# Altium footprint library WePcbLib.PcbLib: 177 footprints (part 7 of 12)
Each footprint in its own frame and in the unit in brackets; x right, y up, seen from the top. Pads: shape width x height; smd on the part's side, far side on the other; paste and mask are expansions set on the pad; w line width, h text height; cw(c..) or ccw(c..) is an arc to the next point about the centre after c.
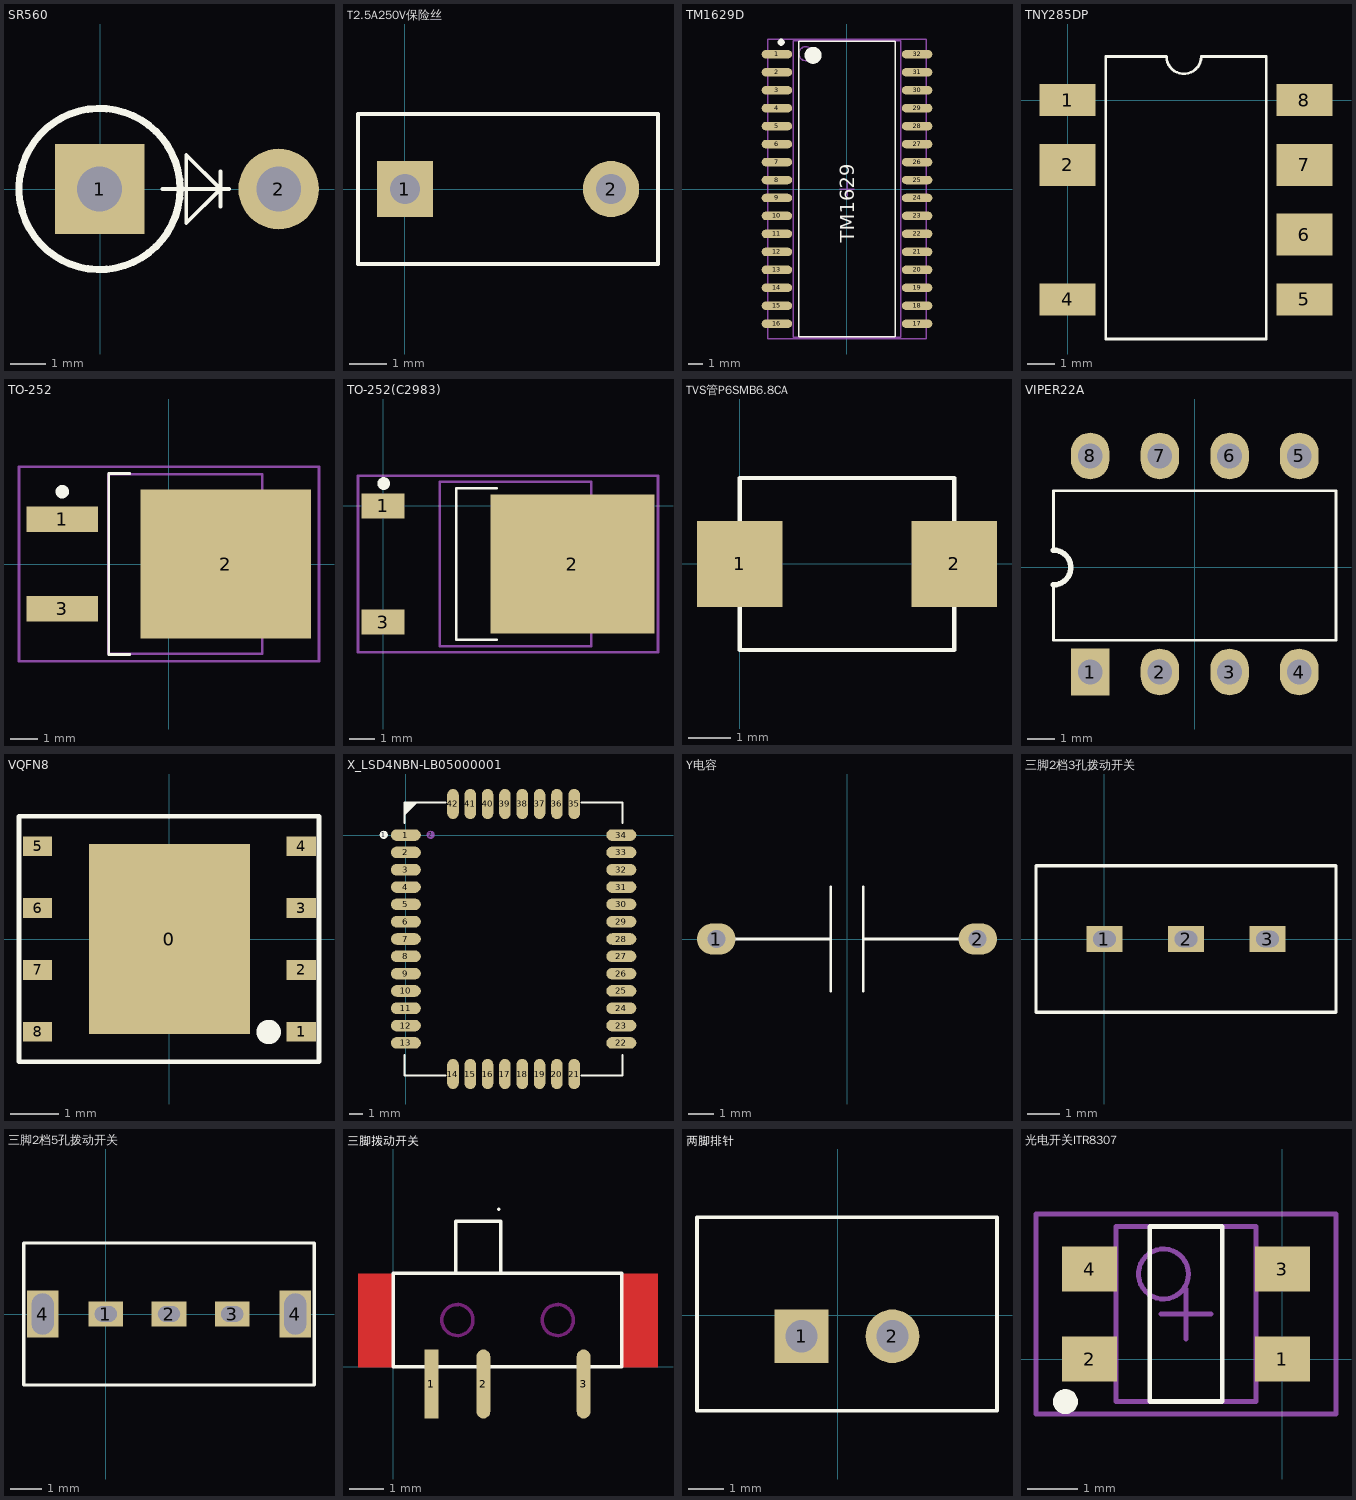
[diagram p6: the footprints below, top view; thin cyan lines are the x and y axes]

## SR560 [mil]
pads (2):
  rect 100x100 hole 50: 1(-1,0)
  round 90 hole 50: 2(199,0)
Top Overlay:
  circle w8: c-1,0 r90
  lines w3.94: 69,0 144,0 ; 134,-20 134,20 ; 95.56,-38.44 95.56,38.44 134,0 95.56,-38.44

## T2.5A250V保险丝 [mm]
pads (2):
  rect 1.5x1.5 hole 0.8: 1(0,0)
  round 1.5 hole 0.8: 2(5.5,0)
Top Overlay:
  lines w0.1: -1.25,-2 -1.25,2 6.75,2 6.75,-2 -1.25,-2

## TM1629D [mm]
height 4.6
pads (32):
  oval 2.159x0.6 smd: 1(-4.95,9.525) 2(-4.95,8.255) 3(-4.95,6.985) 4(-4.95,5.715) 5(-4.95,4.445) 6(-4.95,3.175) 7(-4.95,1.905) 8(-4.95,0.635) 9(-4.95,-0.635) 10(-4.95,-1.905) 11(-4.95,-3.175) 12(-4.95,-4.445) 13(-4.95,-5.715) 14(-4.95,-6.985) 15(-4.95,-8.255) 16(-4.95,-9.525) 17(4.956,-9.525) 18(4.956,-8.255) 19(4.956,-6.985) 20(4.956,-5.715) 21(4.956,-4.445) 22(4.956,-3.175) 23(4.956,-1.905) 24(4.956,-0.635) 25(4.956,0.635) 26(4.956,1.905) 27(4.956,3.175) 28(4.956,4.445) 29(4.956,5.715) 30(4.956,6.985) 31(4.956,8.255) 32(4.956,9.525)
Top Overlay:
  circle w0.25: c-4.647,10.375 r0.125
  circle w0.6: c-2.397,9.45 r0.3
  lines w0.1: -3.397,-10.45 -3.397,10.45 3.403,10.45 3.403,-10.45 -3.397,-10.45
  text "TM1629" at 0.511,-3.81 h1.02
Mechanical 13:
  circle w0.1: c-2.897,9.565 r0.5
  lines w0.1: -3.797,-10.465 -3.797,10.465 3.803,10.465 3.803,-10.465 -3.797,-10.465
Mechanical 15:
  lines w0.1: -0.497,0 0.503,0 ; 0.003,-0.5 0.003,0.5 ; -5.597,-10.6 -5.597,10.6 5.603,10.6 5.603,-10.6 -5.597,-10.6
3D body: height 2.64, standoff 0, extent -3.797,-10.465 3.803,10.465

## TNY285DP [mil]
pads (7):
  rect 80x46 smd: 1(0,0) 4(0,-286) 5(340,-286) 8(340,0)
  rect 80x60 smd: 2(0,-93) 6(340,-193) 7(340,-93)
Top Overlay:
  lines w3.94: 55,-342.77 285,-342.77 285,62.74 191.97,62.74 cw(c166.97,62.74) 141.97,62.74 55,62.74 55,-342.77

## TO-252 [mm] "D-PAK, 3-Pads, Body 5.7x6.7mm (max), IPC Medium Density"
height 2.38
pads (3):
  rect 2.65x0.95 smd: 1(-3.95,1.65) 3(-3.95,-1.65)
  rect 6.3x5.5 smd: 2(2.1,0)
Top Overlay:
  circle w0.25: c-3.95,2.675 r0.125
  lines w0.1: -1.45,-3.35 -2.225,-3.35 -2.225,3.35 -1.45,3.35
Mechanical 13:
  lines w0.1: -2.25,-3.325 -2.25,3.325 3.45,3.325 3.45,-3.325 -2.25,-3.325
Mechanical 15:
  lines w0.1: -0.5,0 0.5,0 ; 0,-0.5 0,0.5 ; -5.55,-3.6 -5.55,3.6 5.55,3.6 5.55,-3.6 -5.55,-3.6
3D body: height 2.38, standoff 0.43, extent -2.25,-3.325 3.45,3.325

## TO-252(C2983) [mm]
height 4.6
pads (3):
  rect 1.7x1 smd: 1(0,0) 3(0,-4.6)
  rect 6.5x5.5 smd: 2(7.5,-2.3)
Top Overlay:
  circle w0.25: c0.027,0.889 r0.125
  lines w0.1: 4.5,-5.3 2.9,-5.3 2.9,0.7 4.5,0.7
Mechanical 13:
  lines w0.1: 2.25,-5.55 2.25,0.95 8.25,0.95 8.25,-5.55 2.25,-5.55
Mechanical 15:
  lines w0.1: 4.5,-2.3 5.5,-2.3 ; 5,-2.8 5,-1.8 ; -0.991,-5.8 -0.991,1.2 10.897,1.2 10.897,-5.8 -0.991,-5.8
3D body: height 4.6, standoff 0.5, extent 2.25,-5.55 8.25,0.95

## TVS管P6SMB6.8CA [mm]
height 4.6
pads (2):
  rect 2x2 smd: 1(0,0) 2(5.004,0)
Top Overlay:
  lines w0.1: 0,-2.007 5.004,-2.007 5.004,2.007 0,2.007 0,-2.007

## VIPER22A [mm] "DIP; 8 Leads; Row Spacing 7.62 mm; Pitch 2.54 mm"
height 5.08
pads (8):
  rect 1.4x1.7 hole 0.9: 1(-3.81,-3.81)
  oval 1.4x1.7 hole 0.9: 2(-1.27,-3.81) 3(1.27,-3.81) 4(3.81,-3.81) 5(3.81,4.064) 6(1.27,4.064) 7(-1.27,4.064) 8(-3.81,4.064)
Top Overlay:
  lines w0.1: -5.15,-0.635 -5.15,-2.65 5.15,-2.65 5.15,2.794 -5.15,2.794 -5.15,0.635
  lines w0.2: -5.15,-0.635 ccw(c-5.15,0) -5.15,0.635

## VQFN8 [mm]
pads (9):
  rect 3.3x3.9 smd: 0(0,0)
  rect 0.6x0.4 smd: 1(2.7,-1.905) 2(2.7,-0.635) 3(2.7,0.635) 4(2.7,1.905) 5(-2.7,1.905) 6(-2.7,0.635) 7(-2.7,-0.635) 8(-2.7,-1.905)
Top Overlay:
  circle w0.25: c2.034,-1.905 r0.125
  lines w0.1: -3.081,-2.515 3.066,-2.515 3.066,2.515 -1.659,2.515 -3.081,2.515 -3.081,0.457 -3.081,-2.515

## X_LSD4NBN-LB05000001 [mm]
pads (44):
  round 0.6 on Top Overlay mask+0.051: 1(-1.62,0.02)
  oval 2.2x0.85 smd: 1(0,0) 2(0,-1.27) 3(0,-2.54) 4(0,-3.81) 5(0,-5.08) 6(0,-6.35) 7(0,-7.62) 8(0,-8.89) 9(0,-10.16) 10(0,-11.43) 11(0,-12.7) 12(0,-13.97) 13(0,-15.24) 22(15.8,-15.24) 23(15.8,-13.97) 24(15.8,-12.7) 25(15.8,-11.43) 26(15.8,-10.16) 27(15.8,-8.89) 28(15.8,-7.62) 29(15.8,-6.35) 30(15.8,-5.08) 31(15.8,-3.81) 32(15.8,-2.54) 33(15.8,-1.27) 34(15.8,0)
  round 0.6 on Mech1 mask+0.051: 2(1.82,0.02)
  oval 0.85x2.2 smd: 14(3.455,-17.52) 15(4.725,-17.52) 16(5.995,-17.52) 17(7.265,-17.52) 18(8.535,-17.52) 19(9.805,-17.52) 20(11.075,-17.52) 21(12.345,-17.52) 35(12.345,2.28) 36(11.075,2.28) 37(9.805,2.28) 38(8.535,2.28) 39(7.265,2.28) 40(5.995,2.28) 41(4.725,2.28) 42(3.455,2.28)
Top Overlay:
  lines w0.15: -0.1,-16.12 -0.1,-17.62 2.9,-17.62 ; -0.1,0.88 -0.1,2.38 ; -0.1,1.535 0.745,2.38 ; -0.1,1.635 0.645,2.38 ; -0.1,1.785 0.495,2.38 ; -0.1,1.885 0.395,2.38 ; -0.1,2.16 -0.1,2.11 ; 0.125,2.11 -0.1,2.11 ; 0.126,2.154 -0.1,2.38 ; 0.145,2.282 0.145,2.38 ; 0.17,2.38 -0.1,2.11 ; 2.9,2.38 -0.1,2.38 ; 12.9,-17.62 15.9,-17.62 15.9,-16.12 ; 12.9,2.38 15.9,2.38 15.9,0.88 ; -0.1,2.11 -0.019,2.029 -0.1,2.11
3D body: height 2.2, standoff 0, extent -0.1,-17.62 15.9,2.38

## Y电容 [mm]
pads (2):
  oval 1.5x1.2 hole 0.7: 1(-5.08,0) 2(5.08,0)
Top Overlay:
  lines w0.1: -4.353,0 -0.635,0 ; -0.635,-2.032 -0.635,2.032 ; 0.635,-2.032 0.635,2.032 ; 0.635,0 4.318,0

## 三脚2档3孔拨动开关 [mm]
pads (3):
  rect 1.1x0.8 hole 0.5 slot 0.7 at 0 deg: 1(0,0) 2(2.5,0) 3(5,0)
Top Overlay:
  lines w0.1: -2.1,-2.25 -2.1,2.25 7.1,2.25 7.1,-2.25 -2.1,-2.25

## 三脚2档5孔拨动开关 [mm]
pads (5):
  rect 1.1x0.8 hole 0.5 slot 0.7 at 0 deg: 1(0,0) 2(2,0) 3(4,0)
  rect 1x1.5 hole 0.7 slot 1.3 at 90 deg: 4(-2,0) 4(6,0)
Top Overlay:
  lines w0.1: -2.6,-2.25 6.6,-2.25 6.6,2.25 -2.6,2.25 -2.6,-2.25

## 三脚拨动开关 [mm]
pads (3):
  rect 0.4x2 smd: 1(1.1,-0.5)
  oval 0.4x2 smd: 2(2.6,-0.5) 3(5.5,-0.5)
Top Layer:
  rectangle: 6.6,-0.025 7.65,2.7
  rectangle: -1.025,-0.025 0.025,2.7
Top Overlay:
  lines w0.102: 0,0 6.6,0 6.6,2.675 ; 0,0.025 0,2.7 6.6,2.7 ; 1.8,2.7 1.8,4.2 3.1,4.2 3.1,2.7 ; 3.05,4.55 3.05,4.55
Keep-Out Layer:
  circle w0.102: c4.75,1.35 r0.45
  circle w0.102: c1.85,1.35 r0.45

## 两脚排针 [mm]
height 4.6
pads (2):
  rect 1.5x1.5 hole 0.9: 1(-1.016,-0.584)
  round 1.5 hole 0.9: 2(1.524,-0.584)
Top Overlay:
  lines w0.1: -3.937,-2.667 -3.937,2.743 4.445,2.743 4.445,-2.667 -3.937,-2.667

## 光电开关ITR8307 [mm]
height 1.6
pads (4):
  rect 1.1x0.9 smd: 1(0,0) 2(-3.85,0) 3(0,1.8) 4(-3.85,1.8)
Top Overlay:
  circle w0.25: c-4.336,-0.853 r0.125
  lines w0.1: -2.65,-0.85 -1.2,-0.85 -1.2,2.65 -2.65,2.65 -2.65,-0.85
Mechanical 13:
  circle w0.1: c-2.375,1.7 r0.5
  lines w0.1: -3.325,-0.85 -0.525,-0.85 -0.525,2.65 -3.325,2.65 -3.325,-0.85
Mechanical 15:
  lines w0.1: -2.425,0.9 -1.425,0.9 ; -1.925,0.4 -1.925,1.4 ; -4.925,-1.1 1.075,-1.1 1.075,2.9 -4.925,2.9 -4.925,-1.1
3D body: height 1.6, standoff 0.2, extent -3.325,-0.85 -0.525,2.65